# EAGLE library part AMG8833 (library GridEye)
AMG8833 Grid-Eye infrared sensor
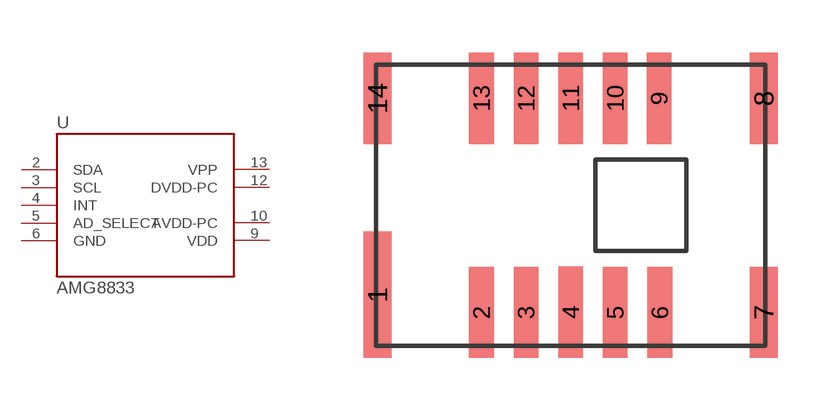
[diagram p0: symbol with the pads of AMG8833; footprint AMG8833]

Designator prefix -

## AMG8833SMD  [AMG8833]
2  SDA
3  SCL
4  INT
5  AD_SELECT
6  GND
9  VDD
10  AVDD-PC
12  DVDD-PC
13  VPP

## Footprint AMG8833 (pad centres in mm)
Layout for AMG8833
smd 0.8 x 3.6: 1 -5.5,-2.55
smd 0.7 x 2.6: 2 -2.54,-3.05; 3 -1.27,-3.05; 4 0,-3.04; 5 1.27,-3.05; 6 2.54,-3.05; 9 2.52,3.05; 10 1.27,3.05; 11 0,3.05; 12 -1.27,3.05; 13 -2.54,3.05
smd 0.8 x 2.6: 7 5.5,-3.05; 8 5.5,3.05; 14 -5.5,3.05